# Altium footprint library testpad.PCBLIB: 42 footprints (part 2 of 3)
Each footprint in its own frame and in the unit in brackets; x right, y up, seen from the top. Pads: shape width x height; smd on the part's side, far side on the other; paste and mask are expansions set on the pad; w line width, h text height; cw(c..) or ccw(c..) is an arc to the next point about the centre after c.
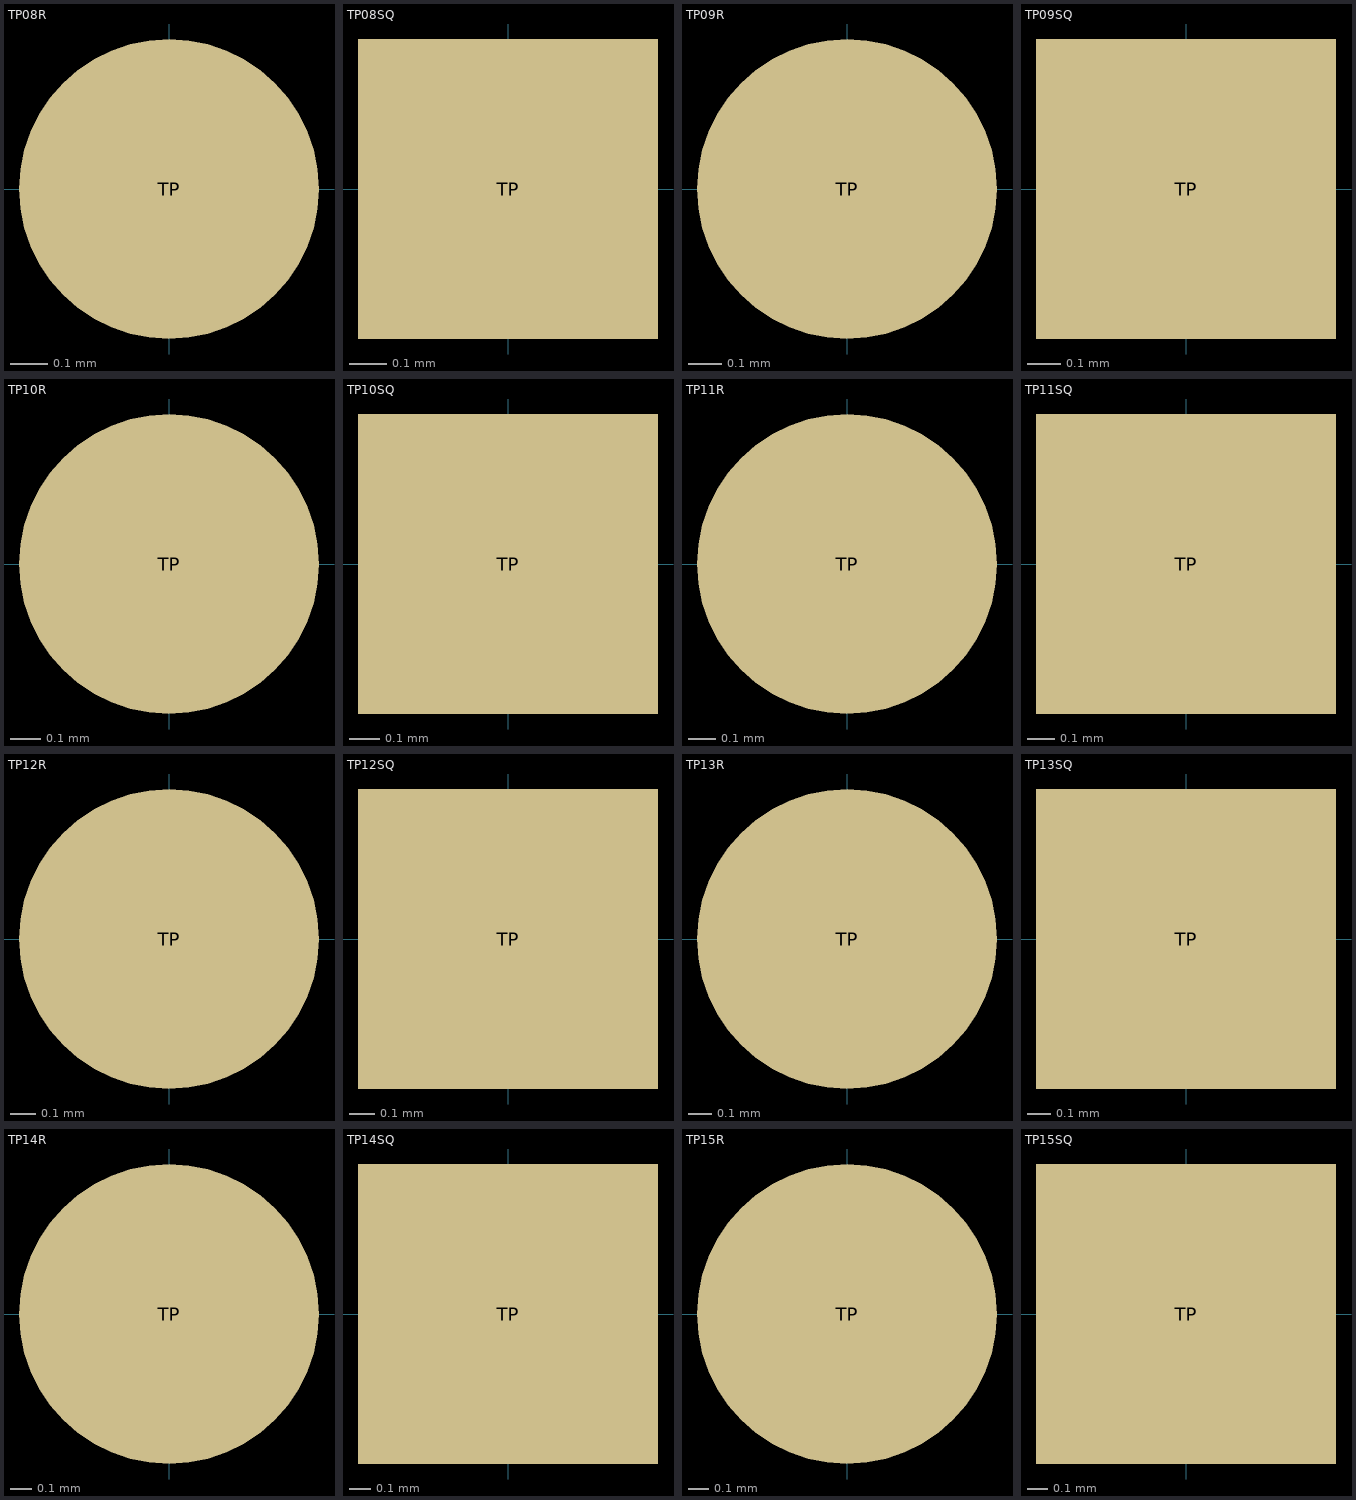
[diagram p1: the footprints below, top view; thin cyan lines are the x and y axes]

## TP08R [mil]
pads (1):
  rrect100% 31.5x31.5 smd paste-15.75: TP(0,0)

## TP08SQ [mil]
pads (1):
  rect 31.5x31.5 smd paste-15.75: TP(0,0)

## TP09R [mil]
pads (1):
  rrect100% 35.43x35.43 smd paste-17.71: TP(0,0)

## TP09SQ [mil]
pads (1):
  rect 35.43x35.43 smd paste-17.71: TP(0,0)

## TP10R [mm]
pads (1):
  rrect100% 1x1 smd paste-0.5: TP(0,0)

## TP10SQ [mm]
pads (1):
  rect 1x1 smd paste-0.5: TP(0,0)

## TP11R [mil]
pads (1):
  rrect100% 43.31x43.31 smd paste-21.66: TP(0,0)

## TP11SQ [mil]
pads (1):
  rect 43.31x43.31 smd paste-21.66: TP(0,0)

## TP12R [mil]
pads (1):
  rrect100% 47.24x47.24 smd paste-23.62: TP(0,0)

## TP12SQ [mil]
pads (1):
  rect 47.24x47.24 smd paste-23.62: TP(0,0)

## TP13R [mil]
pads (1):
  rrect100% 51.18x51.18 smd paste-25.59: TP(0,0)

## TP13SQ [mil]
pads (1):
  rect 51.18x51.18 smd paste-25.59: TP(0,0)

## TP14R [mil]
pads (1):
  rrect100% 55.12x55.12 smd paste-27.56: TP(0,0)

## TP14SQ [mil]
pads (1):
  rect 55.12x55.12 smd paste-27.56: TP(0,0)

## TP15R [mil]
pads (1):
  rrect100% 59.06x59.06 smd paste-29.53: TP(0,0)

## TP15SQ [mil]
pads (1):
  rect 59.06x59.06 smd paste-29.53: TP(0,0)